# EAGLE library part 71918-106LF (library FCI_By_element14_Batch_1)
LATCH HEADER, STRAIGHT
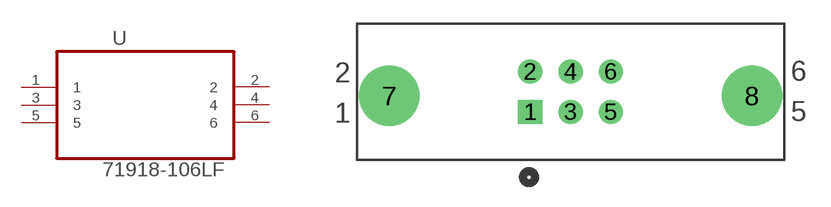
[diagram p21: symbol with the pads of FCI_71918-106LF; footprint FCI_71918-106LF]

Designator prefix U

## 71918-106LF (MPN: 71918-106LF; OC_FARNELL: 1691850; OC_NEWARK: 43K4475; PACKAGE: CON-6WAYS; SUPPLIER: FCI)  [FCI_71918-106LF]
1  1  pas
2  2  pas
3  3  pas
4  4  pas
5  5  pas
6  6  pas

## Footprint FCI_71918-106LF (pad centres in mm)
drill 1.016 square: 1 -5.08,-2.54
drill 1.016: 2 -5.08,0; 3 -2.54,-2.54; 4 -2.54,0; 5 0,-2.54; 6 0,0
drill 2.794: 7 -13.97,-1.524; 8 8.89,-1.524